# EAGLE library part PLD_ATF22V10B (library 07-Retrocomputing)
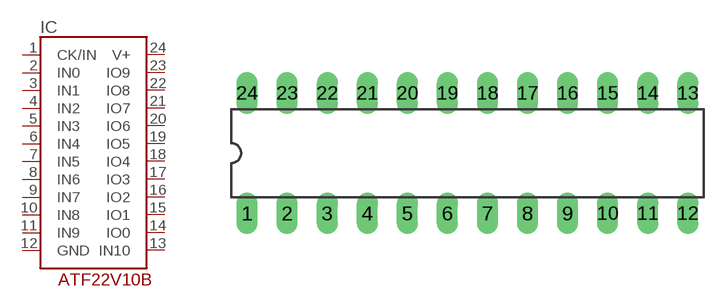
[diagram p33: symbol with the pads of DIL24-3; footprint DIL24-3]

Designator prefix IC

## PLD_ATF22V10B  [DIL24-3]
1  CK/IN
2  IN0
3  IN1
4  IN2
5  IN3
6  IN4
7  IN5
8  IN6
9  IN7
10  IN8
11  IN9
12  GND
13  IN10
14  IO0
15  IO1
16  IO2
17  IO3
18  IO4
19  IO5
20  IO6
21  IO7
22  IO8
23  IO9
24  V+

## Footprint DIL24-3 (pad centres in mm)
Dual In Line Package 0.3 inch
drill 0.813 long: 1 -13.97,-3.81; 2 -11.43,-3.81; 3 -8.89,-3.81; 4 -6.35,-3.81; 5 -3.81,-3.81; 6 -1.27,-3.81; 7 1.27,-3.81; 8 3.81,-3.81; 9 6.35,-3.81; 10 8.89,-3.81; 11 11.43,-3.81; 12 13.97,-3.81; 13 13.97,3.81; 14 11.43,3.81; 15 8.89,3.81; 16 6.35,3.81; 17 3.81,3.81; 18 1.27,3.81; 19 -1.27,3.81; 20 -3.81,3.81; 21 -6.35,3.81; 22 -8.89,3.81; 23 -11.43,3.81; 24 -13.97,3.81